# EAGLE library part GHI-IC_TDA19988BHN/C1 (library BeagleBone_Black_Wireless)
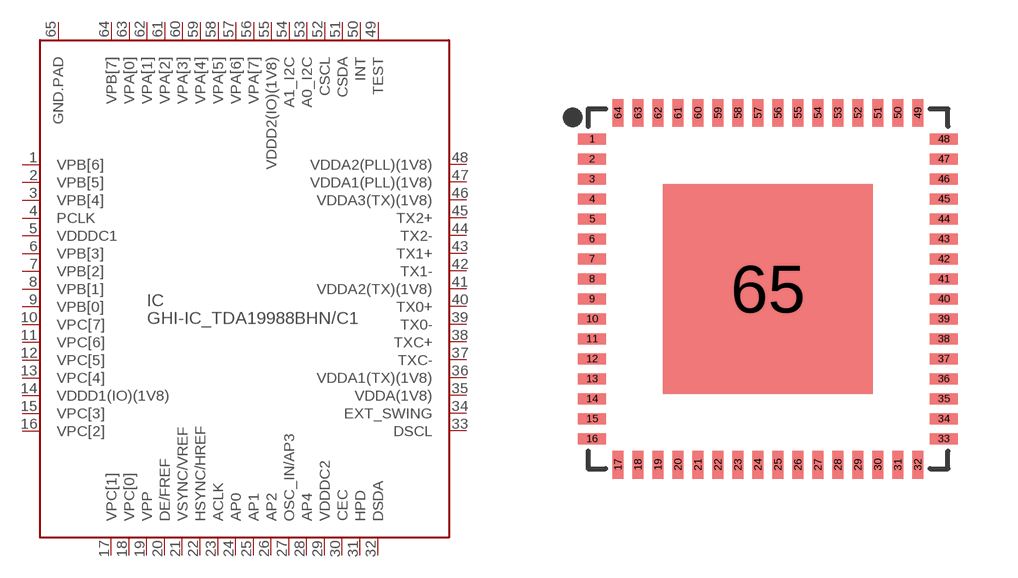
[diagram p4: symbol with the pads of GHI-IC_SOT804-4(NXP); footprint GHI-IC_SOT804-4(NXP)]

Designator prefix IC

## GHI-IC_TDA19988BHN/C1  [GHI-IC_SOT804-4(NXP)]
1  VPB[6]
2  VPB[5]
3  VPB[4]
4  PCLK
5  VDDDC1
6  VPB[3]
7  VPB[2]
8  VPB[1]
9  VPB[0]
10  VPC[7]
11  VPC[6]
12  VPC[5]
13  VPC[4]
14  VDDD1(IO)(1V8)
15  VPC[3]
16  VPC[2]
17  VPC[1]
18  VPC[0]
19  VPP
20  DE/FREF
21  VSYNC/VREF
22  HSYNC/HREF
23  ACLK
24  AP0
25  AP1
26  AP2
27  OSC_IN/AP3
28  AP4
29  VDDDC2
30  CEC
31  HPD
32  DSDA
33  DSCL
34  EXT_SWING
35  VDDA(1V8)
36  VDDA1(TX)(1V8)
37  TXC-
38  TXC+
39  TX0-
40  TX0+
41  VDDA2(TX)(1V8)
42  TX1-
43  TX1+
44  TX2-
45  TX2+
46  VDDA3(TX)(1V8)
47  VDDA1(PLL)(1V8)
48  VDDA2(PLL)(1V8)
49  TEST
50  INT
51  CSDA
52  CSCL
53  A0_I2C
54  A1_I2C
55  VDDD2(IO)(1V8)
56  VPA[7]
57  VPA[6]
58  VPA[5]
59  VPA[4]
60  VPA[3]
61  VPA[2]
62  VPA[1]
63  VPA[0]
64  VPB[7]
65  GND.PAD

## Footprint GHI-IC_SOT804-4(NXP) (pad centres in mm)
smd 0.7 x 0.275: 1 -4.4,3.75; 2 -4.4,3.25; 3 -4.4,2.75; 4 -4.4,2.25; 5 -4.4,1.75; 6 -4.4,1.25; 7 -4.4,0.75; 8 -4.4,0.25; 9 -4.4,-0.25; 10 -4.4,-0.75; 11 -4.4,-1.25; 12 -4.4,-1.75; 13 -4.4,-2.25; 14 -4.4,-2.75; 15 -4.4,-3.25; 16 -4.4,-3.75; 33 4.4,-3.75; 34 4.4,-3.25; 35 4.4,-2.75; 36 4.4,-2.25; 37 4.4,-1.75; 38 4.4,-1.25; 39 4.4,-0.75; 40 4.4,-0.25; 41 4.4,0.25; 42 4.4,0.75; 43 4.4,1.25; 44 4.4,1.75; 45 4.4,2.25; 46 4.4,2.75; 47 4.4,3.25; 48 4.4,3.75
smd 0.275 x 0.7: 17 -3.75,-4.4; 18 -3.25,-4.4; 19 -2.75,-4.4; 20 -2.25,-4.4; 21 -1.75,-4.4; 22 -1.25,-4.4; 23 -0.75,-4.4; 24 -0.25,-4.4; 25 0.25,-4.4; 26 0.75,-4.4; 27 1.25,-4.4; 28 1.75,-4.4; 29 2.25,-4.4; 30 2.75,-4.4; 31 3.25,-4.4; 32 3.75,-4.4; 49 3.75,4.4; 50 3.25,4.4; 51 2.75,4.4; 52 2.25,4.4; 53 1.75,4.4; 54 1.25,4.4; 55 0.75,4.4; 56 0.25,4.4; 57 -0.25,4.4; 58 -0.75,4.4; 59 -1.25,4.4; 60 -1.75,4.4; 61 -2.25,4.4; 62 -2.75,4.4; 63 -3.25,4.4; 64 -3.75,4.4
smd 5.25 x 5.25: 65 0,0